# EAGLE library part ADE7953 (library Batteriehalter - 18650)
ADE7953 Single Phase, Multifunction Metering IC with Neutral Current Measurement
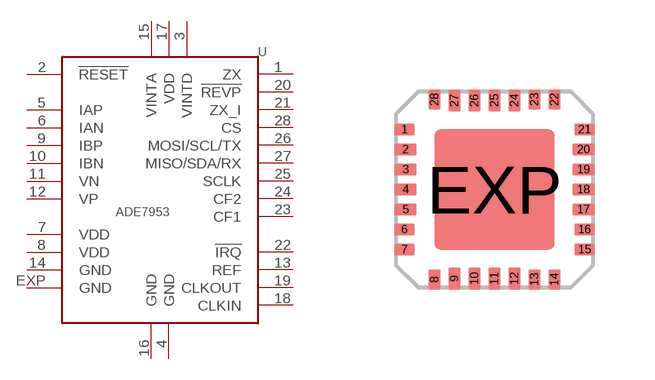
[diagram p4: symbol with the pads of LFCSP28; footprint LFCSP28]

Designator prefix U

## ADE7953  [LFCSP28]
1  ZX  out
2  !RESET  in
3  VINTD
4  GND  pwr
5  IAP  in
6  IAN  in
7  VDD  pwr
8  VDD  pwr
9  IBP  in
10  IBN  in
11  VN  in
12  VP  in
13  REF  out
14  GND  pwr
15  VINTA
16  GND  pwr
17  VDD
18  CLKIN  in
19  CLKOUT  out
20  !REVP
21  ZX_I  out
22  !IRQ  out
23  CF1  out
24  CF2  out
25  SCLK  in
26  MOSI/SCL/TX  out
27  MISO/SDA/RX  in
28  CS  in
EXP  GND  pwr

## Footprint LFCSP28 (pad centres in mm)
28-Lead Lead Frame Chip Scale Package 5 mm × 5 mm (CP-28)
smd 0.5 x 0.3: 1 -2.25,1.5; 6 -2.25,-1; 7 -2.25,-1.5; 15 2.25,-1.5; 16 2.25,-1; 21 2.25,1.5
smd 0.55 x 0.3: 2 -2.225,1; 3 -2.225,0.5; 4 -2.225,0; 5 -2.225,-0.5; 17 2.225,-0.5; 18 2.225,0; 19 2.225,0.5; 20 2.225,1
smd 0.3 x 0.5: 8 -1.5,-2.25; 13 1,-2.25; 14 1.5,-2.25; 22 1.5,2.25; 23 1,2.25; 28 -1.5,2.25
smd 0.3 x 0.55: 9 -1,-2.225; 10 -0.5,-2.225; 11 0,-2.225; 12 0.5,-2.225; 24 0.5,2.225; 25 0,2.225; 26 -0.5,2.225; 27 -1,2.225
smd 3 x 3: EXP 0,0